# EAGLE library part LM201AN (library ST Microelectronics)
OPERATIONAL AMPLIFIERS
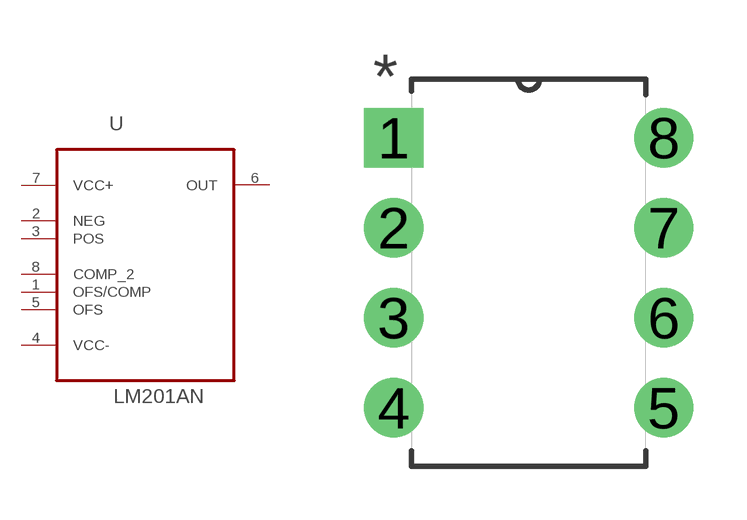
[diagram p85: symbol with the pads of DIP254P762X508-8; footprint DIP254P762X508-8]

Designator prefix U

## LM201AN (MPN: LM201AN; OC_FARNELL: 1467652; OC_NEWARK: 89K1292; PACKAGE: DIP-8; SUPPLIER: STMICROELECTRONICS)  [DIP254P762X508-8]
1  OFS/COMP  pas
2  NEG  in
3  POS  in
4  VCC-  pas
5  OFS  pas
6  OUT  out
7  VCC+  pwr
8  COMP_2  in

## Footprint DIP254P762X508-8 (pad centres in mm)
drill 1.118 square: 1 -7.62,7.62
drill 1.118: 2 -7.62,5.08; 3 -7.62,2.54; 4 -7.62,0; 5 0,0; 6 0,2.54; 7 0,5.08; 8 0,7.62